# Altium footprint library THD Crystals.PcbLib: 4 footprints
Each footprint in its own frame and in the unit in brackets; x right, y up, seen from the top. Pads: shape width x height; smd on the part's side, far side on the other; paste and mask are expansions set on the pad; w line width, h text height; cw(c..) or ccw(c..) is an arc to the next point about the centre after c.
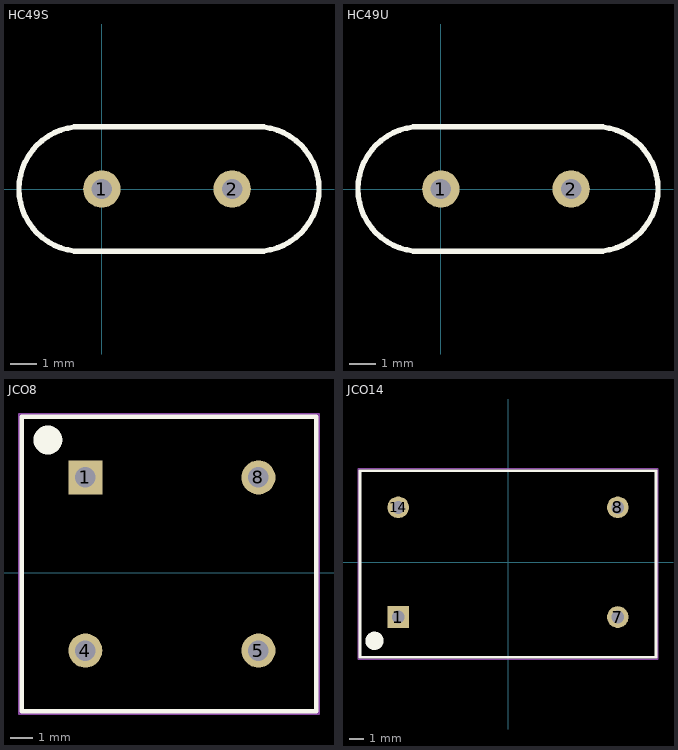
[diagram p0: the footprints below, top view; thin cyan lines are the x and y axes]

## HC49S [mil]
pads (2):
  round 55 hole 30: 1(0,0) 2(192,0)
Top Overlay:
  lines w8: -36,-92 228,-92 ccw(c228,0) 228,92 -36,92 ; -30,-92 cw(c-30,0) -30,92
3D body "HC49S.STEP": height 142.73, standoff -77.74, extent -120.37,-92.97 319.49,90.99

## HC49U [mil]
pads (2):
  round 55 hole 30: 1(0,0) 2(192,0)
Top Overlay:
  lines w8: -36,-92 228,-92 ccw(c228,0) 228,92 -36,92 ; -30,-92 cw(c-30,0) -30,92
3D body "HC49U.STEP": height 530.92, standoff -77.74, extent -119.93,-93.96 319.93,90

## JCO8 [mm] "DIP; 8 Leads; Row Spacing 7.62 mm; Pitch 2.54 mm"
height 5.33
pads (4):
  rect 1.5x1.5 hole 0.9: 1(-11.303,4.191)
  round 1.5 hole 0.9: 4(-11.303,-3.429) 5(-3.683,-3.429) 8(-3.683,4.191)
Top Overlay:
  circle w0.762: c-12.954,5.842 r0.254
  lines w0.2: -14.097,-6.096 -14.097,6.858 -1.143,6.858 -1.143,-6.096 -14.097,-6.096
Mechanical 13:
  lines w0.1: -14.224,-6.223 -1.016,-6.223 -1.016,6.985 -14.224,6.985 -14.224,-6.223
3D body "JCO8.STEP": height 5.97, standoff -1.97, extent -14.068,-6.081 -1.143,6.843

## JCO14 [mm] "DIP, Molded; 16 Leads; Row Spacing 7.62 mm; Pitch 2.54 mm"
height 4.83
pads (4):
  rect 1.5x1.5 hole 0.9: 1(-7.62,-3.81)
  round 1.5 hole 0.9: 7(7.62,-3.81) 8(7.62,3.81) 14(-7.62,3.81)
Top Overlay:
  circle w0.762: c-9.271,-5.461 r0.254
  lines w0.2: -10.287,-6.604 10.287,-6.604 10.287,6.35 -10.287,6.35 -10.287,-6.604
Mechanical 13:
  lines w0.1: -10.414,-6.731 -10.414,6.477 10.414,6.477 10.414,-6.731 -10.414,-6.731
3D body "JCO14.STEP": height 5.97, standoff -1.97, extent -10.275,-6.604 10.275,6.318